# EAGLE library part N42G-18 (library con-malina)
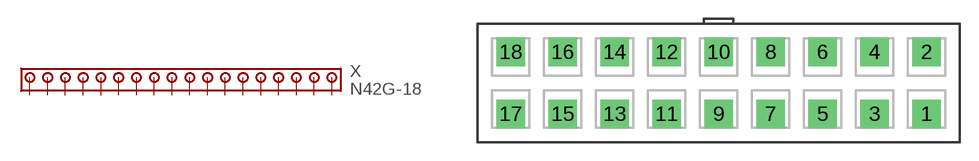
[diagram p6: symbol with the pads of N42G-18-VPS; footprint N42G-18-VPS]

Designator prefix X

## N42G-18-VPS  [N42G-18-VPS]
1  1  pas
2  2  pas
3  3  pas
4  4  pas
5  5  pas
6  6  pas
7  7  pas
8  8  pas
9  9  pas
10  10  pas
11  11  pas
12  12  pas
13  13  pas
14  14  pas
15  15  pas
16  16  pas
17  17  pas
18  18  pas

## Footprint N42G-18-VPS (pad centres in mm)
drill 1.5 pad 2.3 square: 1 16.8,-2.5; 2 16.8,2.5; 3 12.6,-2.5; 4 12.6,2.5; 5 8.4,-2.5; 6 8.4,2.5; 7 4.2,-2.5; 8 4.2,2.5; 9 0,-2.5; 10 0,2.5; 11 -4.2,-2.5; 12 -4.2,2.5; 13 -8.4,-2.5; 14 -8.4,2.5; 15 -12.6,-2.5; 16 -12.6,2.5; 17 -16.8,-2.5; 18 -16.8,2.5